# Altium footprint library MountingHole.PcbLib: 167 footprints (part 7 of 11)
Each footprint in its own frame and in the unit in brackets; x right, y up, seen from the top. Pads: shape width x height; smd on the part's side, far side on the other; paste and mask are expansions set on the pad; w line width, h text height; cw(c..) or ccw(c..) is an arc to the next point about the centre after c.
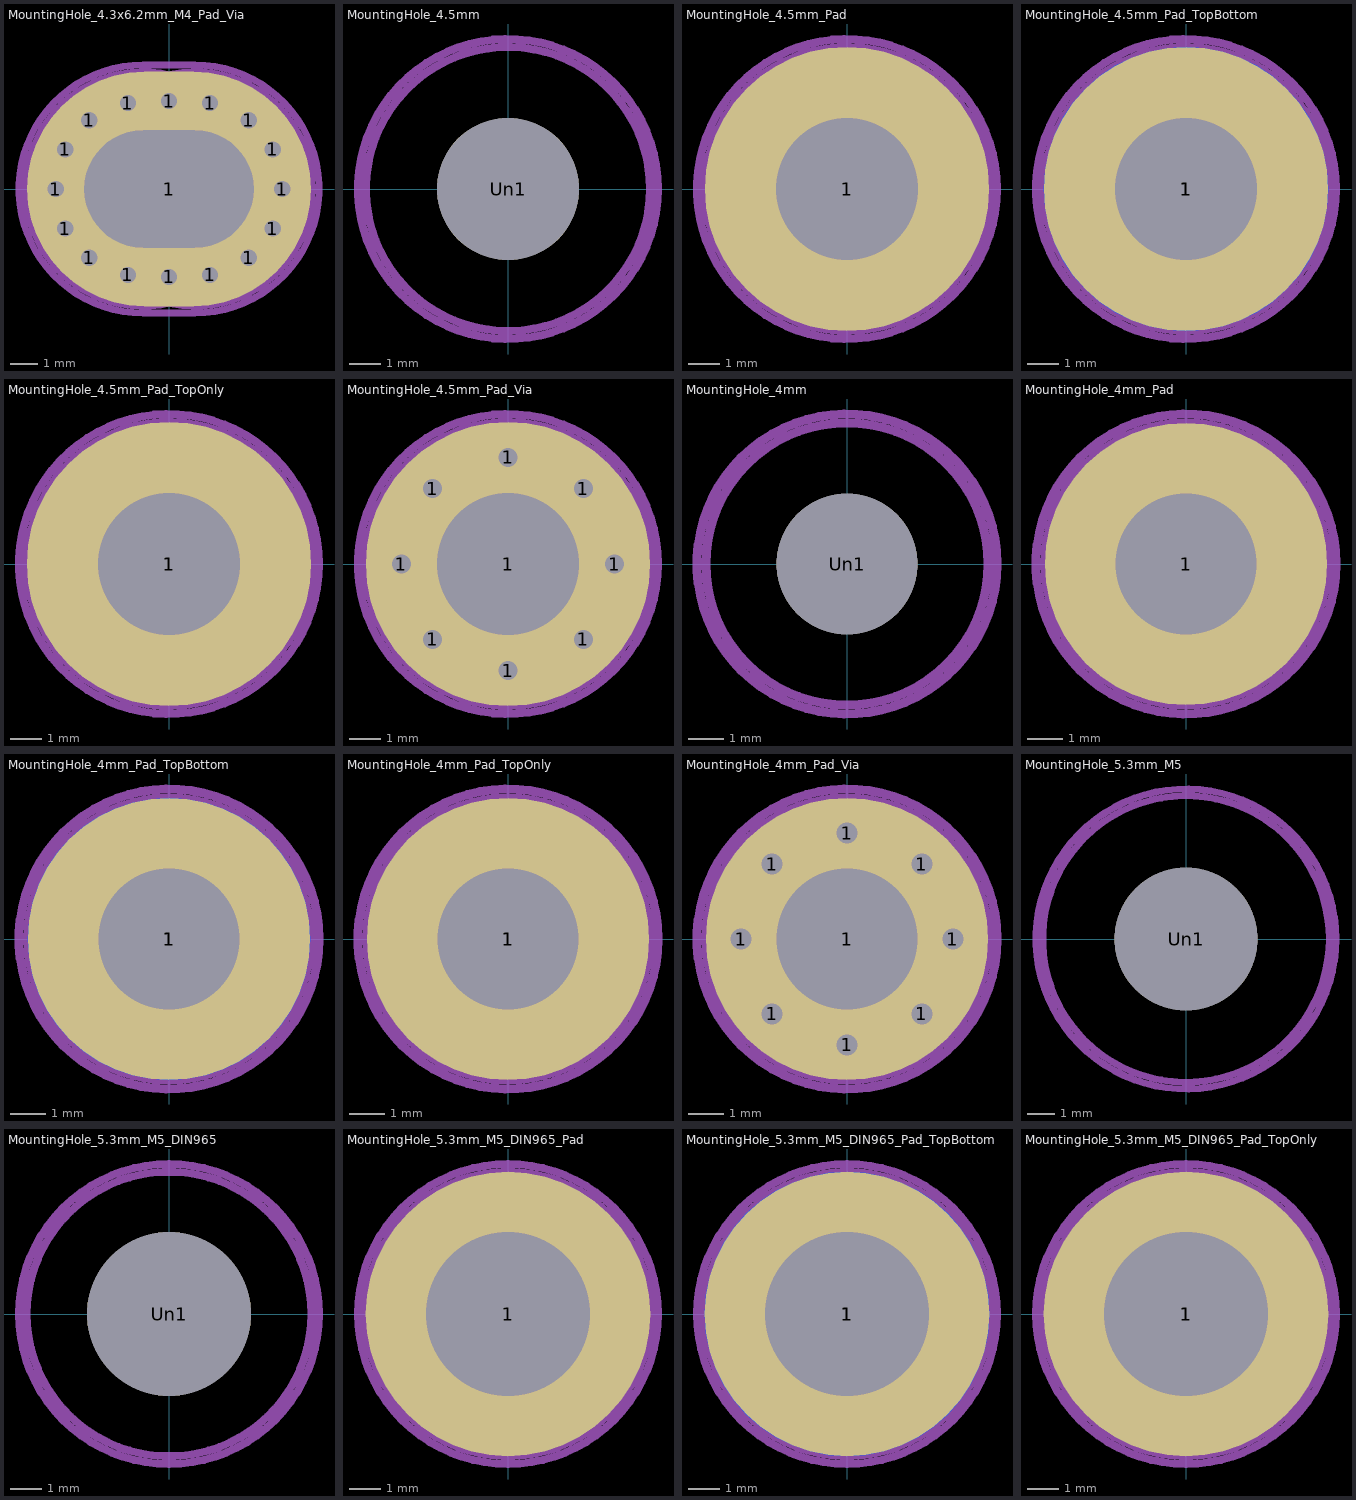
[diagram p6: the footprints below, top view; thin cyan lines are the x and y axes]

## MountingHole_4.3x6.2mm_M4_Pad_Via [mm]
pads (17):
  round 0.9 hole 0.6: 1(-4.15,0) 1(-3.801,-1.45) 1(-3.801,1.45) 1(-2.92,-2.521) 1(-2.92,2.521) 1(-1.505,-3.151) 1(-1.505,3.151) 1(0,-3.225) 1(0,3.225) 1(1.505,-3.151) 1(1.505,3.151) 1(2.92,-2.521) 1(2.92,2.521) 1(3.801,-1.45) 1(3.801,1.45) 1(4.15,0)
  rrect100% 10.4x8.6 hole 4.3 slot 6.2 at 0 deg: 1(0,0)
Top Assembly:
  text "'.Designator'" at -4.047,-0.84 h1
Top Courtyard:
  lines w0.254: -0.95,-4.55 cw(c-0.95,0) -0.95,4.55 0.95,4.55 cw(c0.95,0) 0.95,-4.55 -0.95,-4.55
Top Designator:
  text ".Designator" at -7.618,-0.508 h1.52
Cmts.User:
  circle w0.254: c0.95,0 r4.3
  circle w0.254: c-0.95,0 r4.3

## MountingHole_4.5mm [mm]
pads (1):
  round 4.5 hole 4.5: Un1(0,0)
Top Assembly:
  text "'.Designator'" at -4.047,-0.84 h1
Top Courtyard:
  circle w0.254: c0,0 r4.75
Top Designator:
  text ".Designator" at -7.618,-0.508 h1.52
Cmts.User:
  circle w0.254: c0,0 r4.5

## MountingHole_4.5mm_Pad [mm]
pads (1):
  round 9 hole 4.5: 1(0,0)
Top Assembly:
  text "'.Designator'" at -4.047,-0.84 h1
Top Courtyard:
  circle w0.254: c0,0 r4.75
Top Designator:
  text ".Designator" at -7.618,-0.508 h1.52
Cmts.User:
  circle w0.254: c0,0 r4.5

## MountingHole_4.5mm_Pad_TopBottom [mm]
pads (3):
  round 4.9 hole 4.5: 1(0,0)
  round 9 smd: 1(0,0)
  round 9 smd far side: 1(0,0)
Top Assembly:
  text "'.Designator'" at -4.047,-0.84 h1
Top Courtyard:
  circle w0.254: c0,0 r4.75
Top Designator:
  text ".Designator" at -7.618,-0.508 h1.52
Cmts.User:
  circle w0.254: c0,0 r4.5

## MountingHole_4.5mm_Pad_TopOnly [mm]
pads (2):
  round 4.9 hole 4.5: 1(0,0)
  round 9 smd: 1(0,0)
Top Assembly:
  text "'.Designator'" at -4.047,-0.84 h1
Top Courtyard:
  circle w0.254: c0,0 r4.75
Top Designator:
  text ".Designator" at -7.618,-0.508 h1.52
Cmts.User:
  circle w0.254: c0,0 r4.5

## MountingHole_4.5mm_Pad_Via [mm]
pads (9):
  round 0.9 hole 0.6: 1(-3.375,0) 1(-2.386,-2.386) 1(-2.386,2.386) 1(0,-3.375) 1(0,3.375) 1(2.386,-2.386) 1(2.386,2.386) 1(3.375,0)
  round 9 hole 4.5: 1(0,0)
Top Assembly:
  text "'.Designator'" at -4.047,-0.84 h1
Top Courtyard:
  circle w0.254: c0,0 r4.75
Top Designator:
  text ".Designator" at -7.618,-0.508 h1.52
Cmts.User:
  circle w0.254: c0,0 r4.5

## MountingHole_4mm [mm]
pads (1):
  round 4 hole 4: Un1(0,0)
Top Assembly:
  text "'.Designator'" at -4.047,-0.84 h1
Top Courtyard:
  circle w0.254: c0,0 r4.25
Top Designator:
  text ".Designator" at -7.618,-0.508 h1.52
Cmts.User:
  circle w0.254: c0,0 r4

## MountingHole_4mm_Pad [mm]
pads (1):
  round 8 hole 4: 1(0,0)
Top Assembly:
  text "'.Designator'" at -4.047,-0.84 h1
Top Courtyard:
  circle w0.254: c0,0 r4.25
Top Designator:
  text ".Designator" at -7.618,-0.508 h1.52
Cmts.User:
  circle w0.254: c0,0 r4

## MountingHole_4mm_Pad_TopBottom [mm]
pads (3):
  round 4.4 hole 4: 1(0,0)
  round 8 smd: 1(0,0)
  round 8 smd far side: 1(0,0)
Top Assembly:
  text "'.Designator'" at -4.047,-0.84 h1
Top Courtyard:
  circle w0.254: c0,0 r4.25
Top Designator:
  text ".Designator" at -7.618,-0.508 h1.52
Cmts.User:
  circle w0.254: c0,0 r4

## MountingHole_4mm_Pad_TopOnly [mm]
pads (2):
  round 4.4 hole 4: 1(0,0)
  round 8 smd: 1(0,0)
Top Assembly:
  text "'.Designator'" at -4.047,-0.84 h1
Top Courtyard:
  circle w0.254: c0,0 r4.25
Top Designator:
  text ".Designator" at -7.618,-0.508 h1.52
Cmts.User:
  circle w0.254: c0,0 r4

## MountingHole_4mm_Pad_Via [mm]
pads (9):
  round 0.9 hole 0.6: 1(-3,0) 1(-2.121,-2.121) 1(-2.121,2.121) 1(0,-3) 1(0,3) 1(2.121,-2.121) 1(2.121,2.121) 1(3,0)
  round 8 hole 4: 1(0,0)
Top Assembly:
  text "'.Designator'" at -4.047,-0.84 h1
Top Courtyard:
  circle w0.254: c0,0 r4.25
Top Designator:
  text ".Designator" at -7.618,-0.508 h1.52
Cmts.User:
  circle w0.254: c0,0 r4

## MountingHole_5.3mm_M5 [mm]
pads (1):
  round 5.3 hole 5.3: Un1(0,0)
Top Assembly:
  text "'.Designator'" at -4.047,-0.84 h1
Top Courtyard:
  circle w0.254: c0,0 r5.55
Top Designator:
  text ".Designator" at -7.618,-0.508 h1.52
Cmts.User:
  circle w0.254: c0,0 r5.3

## MountingHole_5.3mm_M5_DIN965 [mm]
pads (1):
  round 5.3 hole 5.3: Un1(0,0)
Top Assembly:
  text "'.Designator'" at -4.047,-0.84 h1
Top Courtyard:
  circle w0.254: c0,0 r4.85
Top Designator:
  text ".Designator" at -7.618,-0.508 h1.52
Cmts.User:
  circle w0.254: c0,0 r4.6

## MountingHole_5.3mm_M5_DIN965_Pad [mm]
pads (1):
  round 9.2 hole 5.3: 1(0,0)
Top Assembly:
  text "'.Designator'" at -4.047,-0.84 h1
Top Courtyard:
  circle w0.254: c0,0 r4.85
Top Designator:
  text ".Designator" at -7.618,-0.508 h1.52
Cmts.User:
  circle w0.254: c0,0 r4.6

## MountingHole_5.3mm_M5_DIN965_Pad_TopBottom [mm]
pads (3):
  round 5.7 hole 5.3: 1(0,0)
  round 9.2 smd: 1(0,0)
  round 9.2 smd far side: 1(0,0)
Top Assembly:
  text "'.Designator'" at -4.047,-0.84 h1
Top Courtyard:
  circle w0.254: c0,0 r4.85
Top Designator:
  text ".Designator" at -7.618,-0.508 h1.52
Cmts.User:
  circle w0.254: c0,0 r4.6

## MountingHole_5.3mm_M5_DIN965_Pad_TopOnly [mm]
pads (2):
  round 5.7 hole 5.3: 1(0,0)
  round 9.2 smd: 1(0,0)
Top Assembly:
  text "'.Designator'" at -4.047,-0.84 h1
Top Courtyard:
  circle w0.254: c0,0 r4.85
Top Designator:
  text ".Designator" at -7.618,-0.508 h1.52
Cmts.User:
  circle w0.254: c0,0 r4.6